# Altium schematic symbol library 12401598E42A.SchLib: 1 symbol
Pins are listed as number, name and electrical type; pins without a type are passive.

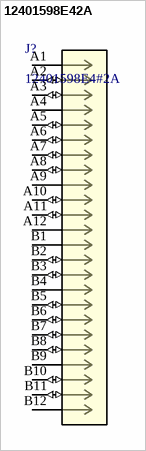
[diagram p0: symbol 12401598E42A]

## 12401598E42A
designator J?, comment 12401598E4#2A
Description; Manufacturer_Name: Amphenol ICC; Type: USB, DVI, HDMI, Connectors; Copyright: Copyright (C) 2025 Ultra Librarian. All rights reserved.; Manufacturer_Part_Number: 12401598E4#2A; RefDes: RefDes
footprint CONN_12401598E42A_AMP
pins: A1 GND (power), A2 TX1+ (io), A3 TX1- (io), A4 VBUS (power), A5 CC1 (io), A6 D+ (io), A7 D- (io), A8 SBU1 (io), A9 VBUS (power), A10 RX2- (io), A11 RX2+ (io), A12 GND (power), B1 GND (power), B2 TX2+ (io), B3 TX2- (io), B4 VBUS (power), B5 CC2 (io), B6 D+ (io), B7 D- (io), B8 SBU2 (io), B9 VBUS (power), B10 RX1- (io), B11 RX1+ (io), B12 GND (power)